# EAGLE library part LSM9DS1 (library LSM9DS1)
iNEMO inertial module: 3D accelerometer, 3D gyroscope, 3D magnetometer
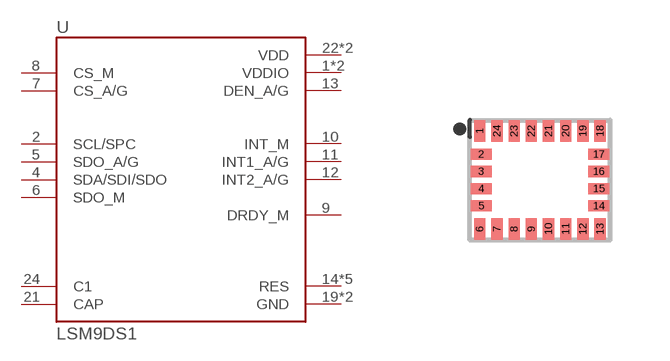
[diagram p0: symbol with the pads of PQFN24P43_350X300X102L35X23N; footprint PQFN24P43_350X300X102L35X23N]

Designator prefix U

## LSM9DS1 (Availability: Unavailable; Description: Accelerometer, Gyroscope, Magnetometer, Temperature, 9 Axis Sensor I²C, SPI Output; MF: STMicroelectronics; MP: LSM9DS1; Package: TFLGA-24 STMicroelectronics; Price: None)  [PQFN24P43_350X300X102L35X23N]
1  VDDIO  pwr
2  SCL/SPC  in
3  VDDIO  pwr
4  SDA/SDI/SDO
5  SDO_A/G  out
6  SDO_M
7  CS_A/G  in
8  CS_M  in
9  DRDY_M  out
10  INT_M  out
11  INT1_A/G  out
12  INT2_A/G  out
13  DEN_A/G  in
14  RES  pwr
15  RES  pwr
16  RES  pwr
17  RES  pwr
18  RES  pwr
19  GND  pwr
20  GND  pwr
21  CAP  pas
22  VDD  pwr
23  VDD  pwr
24  C1  pas

## Footprint PQFN24P43_350X300X102L35X23N (pad centres in mm)
smd 0.28 x 0.53: 1 -1.505,1.225; 6 -1.505,-1.225; 7 -1.075,-1.225; 8 -0.645,-1.225; 9 -0.215,-1.225; 10 0.215,-1.225; 11 0.645,-1.225; 12 1.075,-1.225; 13 1.505,-1.225; 18 1.505,1.225; 19 1.075,1.225; 20 0.645,1.225; 21 0.215,1.225; 22 -0.215,1.225; 23 -0.645,1.225; 24 -1.075,1.225
smd 0.53 x 0.28: 2 -1.47,0.645; 3 -1.47,0.215; 4 -1.47,-0.215; 5 -1.47,-0.645; 14 1.47,-0.645; 15 1.47,-0.215; 16 1.47,0.215; 17 1.47,0.645